# Altium schematic symbol library GRITS Pi Hat.SchLib: 5 symbols
Pins are listed as number, name and electrical type; pins without a type are passive.

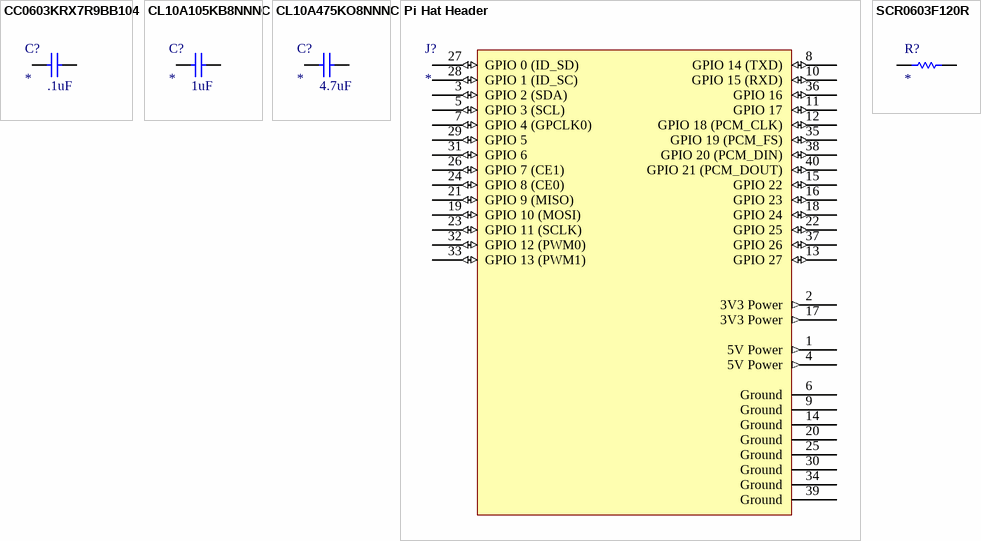
[diagram p0: symbols CC0603KRX7R9BB104 to SCR0603F120R]

## CC0603KRX7R9BB104
designator C?  value .1uF
50V 100nF X7R ±10% 0603 Multilayer Ceramic Capacitors MLCC - SMD/SMT ROHS
footprint CL10A105KB8NNNC (50V 1uF X5R ±10% 0603 Multilayer Ceramic Capacitors MLCC - SMD/SMT ROHS)
pins: 1, 2

## CL10A105KB8NNNC
designator C?  value 1uF
50V 1uF X5R ±10% 0603 Multilayer Ceramic Capacitors MLCC - SMD/SMT ROHS
footprint CL10A105KB8NNNC (50V 1uF X5R ±10% 0603 Multilayer Ceramic Capacitors MLCC - SMD/SMT ROHS)
pins: 1, 2

## CL10A475KO8NNNC
designator C?  value 4.7uF
16V 4.7uF X5R ±10% 0603 Multilayer Ceramic Capacitors MLCC - SMD/SMT ROHS
footprint CL10A105KB8NNNC (50V 1uF X5R ±10% 0603 Multilayer Ceramic Capacitors MLCC - SMD/SMT ROHS)
pins: 1, 2

## Pi Hat Header
designator J?
RaspberryPi 5 Header
footprint CONN_ESQ-120-33-T-D
pins: 1 5V Power (out), 2 3V3 Power (out), 3 GPIO 2 (SDA) (io), 4 5V Power (out), 5 GPIO 3 (SCL) (io), 6 Ground (power), 7 GPIO 4 (GPCLK0) (io), 8 GPIO 14 (TXD) (io), 9 Ground (power), 10 GPIO 15 (RXD) (io), 11 GPIO 17 (io), 12 GPIO 18 (PCM_CLK) (io), 13 GPIO 27 (io), 14 Ground (power), 15 GPIO 22 (io), 16 GPIO 23 (io), 17 3V3 Power (out), 18 GPIO 24 (io), 19 GPIO 10 (MOSI) (io), 20 Ground (power), 21 GPIO 9 (MISO) (io), 22 GPIO 25 (io), 23 GPIO 11 (SCLK) (io), 24 GPIO 8 (CE0) (io), 25 Ground (power), 26 GPIO 7 (CE1) (io), 27 GPIO 0 (ID_SD) (io), 28 GPIO 1 (ID_SC) (io), 29 GPIO 5 (io), 30 Ground (power), 31 GPIO 6 (io), 32 GPIO 12 (PWM0) (io), 33 GPIO 13 (PWM1) (io), 34 Ground (power), 35 GPIO 19 (PCM_FS) (io), 36 GPIO 16 (io), 37 GPIO 26 (io), 38 GPIO 20 (PCM_DIN) (io), 39 Ground (power), 40 GPIO 21 (PCM_DOUT) (io)

## SCR0603F120R
designator R?
50V 1uF X5R ±10% 0603 Multilayer Ceramic Capacitors MLCC - SMD/SMT ROHS
pins: 1, 2